# EAGLE library part FLAT-FLEX-CONNECTOR-RA-16POS (library FlashPCB_Connectors)
FLAT-FLEX-CONNECTOR-RA-16POS - Flat Flex Connector 16 position Right Angle Technical Specifications: Number of Positions: 16 Contact: Top or Bottom Mount: Right Angle
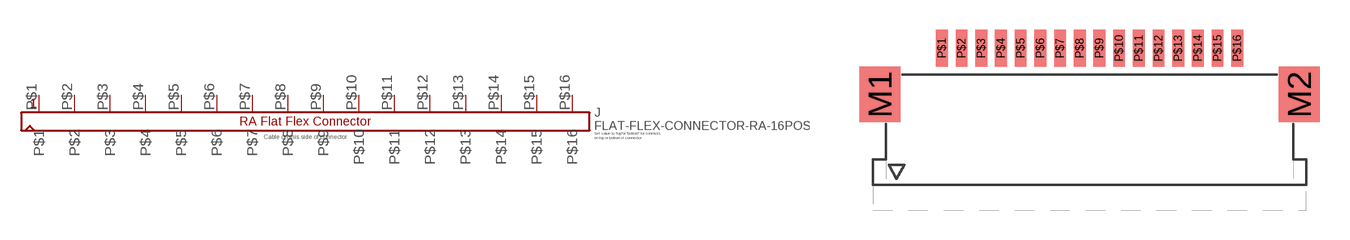
[diagram p112: symbol with the pads of FLAT-FLEX-CONNECTOR-MOLEX-522XX-RA-16POS; footprint FLAT-FLEX-CONNECTOR-MOLEX-522XX-RA-16POS]

Designator prefix J

## FLAT-FLEX-CONNECTOR-RA-16POS1MM-PITCH  [FLAT-FLEX-CONNECTOR-MOLEX-522XX-RA-16POS]
P$1  P$1
P$2  P$2
P$3  P$3
P$4  P$4
P$5  P$5
P$6  P$6
P$7  P$7
P$8  P$8
P$9  P$9
P$10  P$10
P$11  P$11
P$12  P$12
P$13  P$13
P$14  P$14
P$15  P$15
P$16  P$16

## Footprint FLAT-FLEX-CONNECTOR-MOLEX-522XX-RA-16POS (pad centres in mm)
smd 2.1 x 2.8: M1 -10.65,-1.4; M2 10.65,-1.4
smd 0.6 x 1.9: P$1 -7.5,0.95; P$2 -6.5,0.95; P$3 -5.5,0.95; P$4 -4.5,0.95; P$5 -3.5,0.95; P$6 -2.5,0.95; P$7 -1.5,0.95; P$8 -0.5,0.95; P$9 0.5,0.95; P$10 1.5,0.95; P$11 2.5,0.95; P$12 3.5,0.95; P$13 4.5,0.95; P$14 5.5,0.95; P$15 6.5,0.95; P$16 7.5,0.95